# Altium footprint library PG-DSO-8-27.PcbLib: 1 footprints
Each footprint in its own frame and in the unit in brackets; x right, y up, seen from the top. Pads: shape width x height; smd on the part's side, far side on the other; paste and mask are expansions set on the pad; w line width, h text height; cw(c..) or ccw(c..) is an arc to the next point about the centre after c.
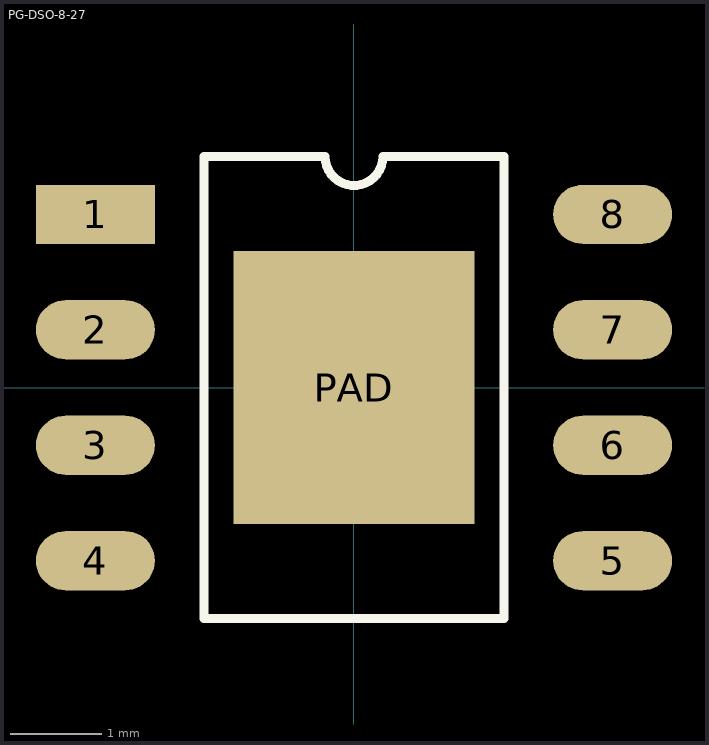
[diagram p0: the footprint, top view; thin cyan lines are the x and y axes]

## PG-DSO-8-27 [mm]
pads (9):
  rect 1.31x0.65 smd: 1(-2.845,1.905)
  oval 1.31x0.65 smd: 2(-2.845,0.635) 3(-2.845,-0.635) 4(-2.845,-1.905) 5(2.845,-1.905) 6(2.845,-0.635) 7(2.845,0.635) 8(2.845,1.905)
  rect 2.65x3 smd: PAD(0,0)
Top Overlay:
  lines w0.1: -1.651,-2.54 -1.651,2.54 -0.318,2.54 ccw(c0,2.54) 0.318,2.54 1.651,2.54 1.651,-2.54 -1.651,-2.54